# Altium footprint library 691 300 700 0xx.PcbLib: 1 footprints
Each footprint in its own frame and in the unit in brackets; x right, y up, seen from the top. Pads: shape width x height; smd on the part's side, far side on the other; paste and mask are expansions set on the pad; w line width, h text height; cw(c..) or ccw(c..) is an arc to the next point about the centre after c.
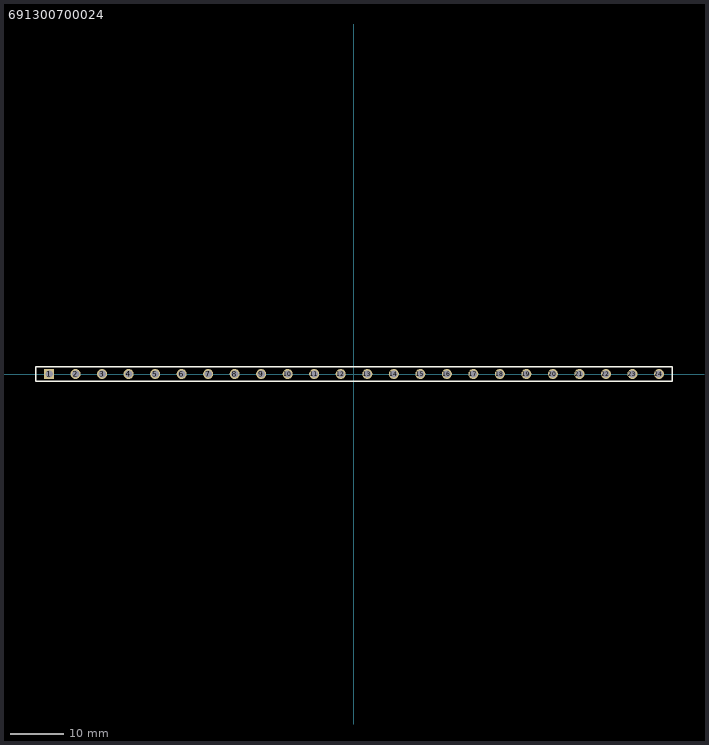
[diagram p0: the footprint, top view; thin cyan lines are the x and y axes]

## 691300700024 [mm] "5.0mm pin header - 24p"
height 8.95
pads (24):
  rect 1.9x1.9 hole 1.4: 1(-57.5,0)
  round 1.9 hole 1.4: 2(-52.5,0) 3(-47.5,0) 4(-42.5,0) 5(-37.5,0) 6(-32.5,0) 7(-27.5,0) 8(-22.5,0) 9(-17.5,0) 10(-12.5,0) 11(-7.5,0) 12(-2.5,0) 13(2.5,0) 14(7.5,0) 15(12.5,0) 16(17.5,0) 17(22.5,0) 18(27.5,0) 19(32.5,0) 20(37.5,0) 21(42.5,0) 22(47.5,0) 23(52.5,0) 24(57.5,0)
Top Overlay:
  lines w0.253: -60,-1.35 -60,1.35 60,1.35 60,-1.35 -60,-1.35
3D body: height 9.01, standoff -3.51, extent -60,-1.35 60,1.35